# Altium footprint library RESC3146X65N.PcbLib: 1 footprints
Each footprint in its own frame and in the unit in brackets; x right, y up, seen from the top. Pads: shape width x height; smd on the part's side, far side on the other; paste and mask are expansions set on the pad; w line width, h text height; cw(c..) or ccw(c..) is an arc to the next point about the centre after c.
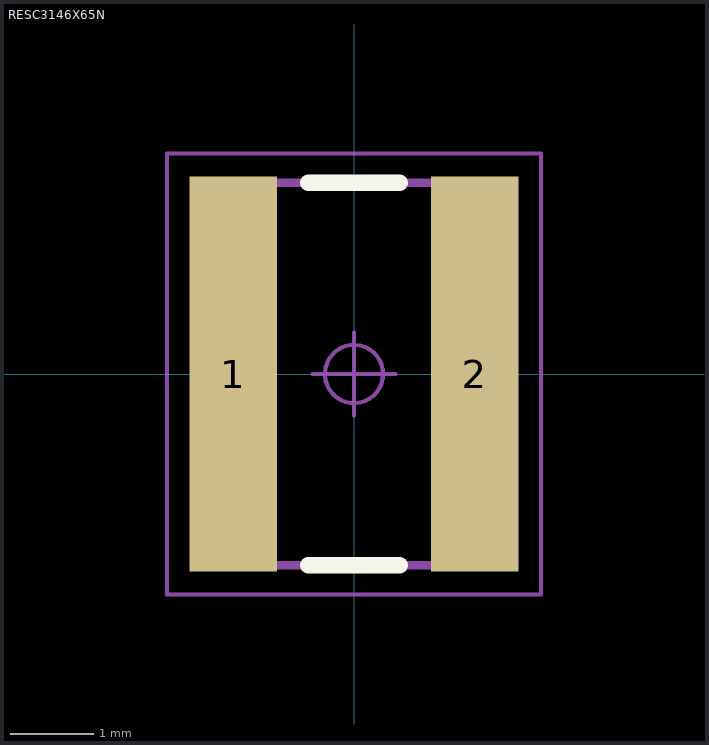
[diagram p0: the footprint, top view; thin cyan lines are the x and y axes]

## RESC3146X65N [mm] "Chip Resistor, EIA 1218, Metric 3146, 2-Leads, Body 4.6x3.1mm, IPC Medium Density"
height 0.65
pads (2):
  rect 1.05x4.75 smd: 1(-1.45,0) 2(1.45,0)
Top Overlay:
  lines w0.2: -0.55,-2.3 0.55,-2.3 ; -0.55,2.3 0.55,2.3
Mechanical 14:
  lines w0.1: -1.55,-2.3 1.55,-2.3 1.55,2.3 -1.55,2.3 -1.55,-2.3
Mechanical 15:
  circle w0.05: c0,0 r0.35
  lines w0.05: -0.5,0 0.5,0 ; 0,-0.5 0,0.5 ; -2.25,-2.65 2.25,-2.65 2.25,2.65 -2.25,2.65 -2.25,-2.65
3D body "RESC3146X65N.stp": height 0.65, standoff 0, extent -1.7,-2.35 1.7,2.35